# EAGLE library part LT3474 (library v-reg-3)
LT3474 - Step-Down 1A LED Driver True Color PWM Delivers Constant Color with 400:1 Dimming Range Wide Input Range: 4V to 36V Up to 1A LED Current Adjustable 200kHz–2MHz Switching Frequency Adjustable Control of LED Current Integrated Boost Diode High Output Current Accuracy is Maintained Over a Wide Range from 35mA to 1A Open LED and Short-Circuit Protection High Side Sense Allows Grounded Cathode Connection Uses Small Inductors and Ceramic Capacitors Compact 16-Lead TSSOP Thermally Enhanced Surface Mount Package
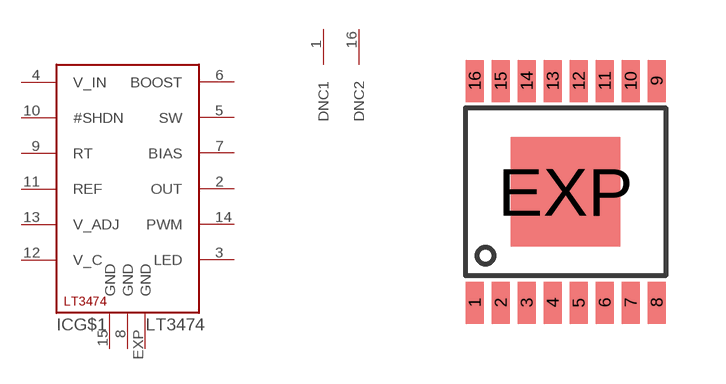
[diagram p8: symbol with the pads of TSSOP16_BA; footprint TSSOP16_BA]

Designator prefix IC; gates G$1=LT3474 G$2=LT3475_SUP G$3=LT3475_SUP G$4=LT3474_DNC

## LT3474  [TSSOP16_BA]
1  G$4:DNC1  nc
2  G$1:OUT  pas
3  G$1:LED  pas
4  G$1:V_IN  pas
5  G$1:SW  pas
6  G$1:BOOST  pas
7  G$1:BIAS  pas
8  G$1:GND  pwr
9  G$1:RT  pas
10  G$1:#SHDN  pas
11  G$1:REF  pas
12  G$1:V_C  pas
13  G$1:V_ADJ  pas
14  G$1:PWM  pas
15  G$2:GND  pwr
16  G$4:DNC2  nc
EXP  G$3:GND  pwr

## Footprint TSSOP16_BA (pad centres in mm)
smd 0.45 x 1.05: 1 -2.275,-2.775; 2 -1.625,-2.775; 3 -0.975,-2.775; 4 -0.325,-2.775; 5 0.325,-2.775; 6 0.975,-2.775; 7 1.625,-2.775; 8 2.275,-2.775; 9 2.275,2.775; 10 1.625,2.775; 11 0.975,2.775; 12 0.325,2.775; 13 -0.325,2.775; 14 -0.975,2.775; 15 -1.625,2.775; 16 -2.275,2.775
smd 2.74 x 2.74: EXP 0,0